# Altium schematic symbol library KLS7-SS-12F19-G5.Schlib: 1 symbol
Pins are listed as number, name and electrical type; pins without a type are passive.

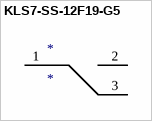
[diagram p0: symbol KLS7-SS-12F19-G5]

## KLS7-SS-12F19-G5
designator *
pins: 1, 2, 3